# Altium integrated library example-9.IntLib: 1 symbol
Pins are listed as number, name and electrical type; pins without a type are passive.

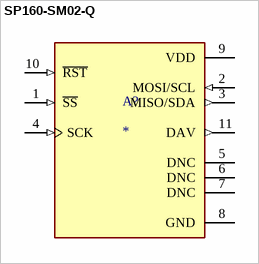
[diagram p0: symbol SP160-SM02-Q]

## SP160-SM02-Q
designator A?
Differential Pressure Sensor Optimized for Medical Â±5K Pa to Â±40K Pa - Quarter Tape & Reel; MF: Superior Sensor Technology Inc.; MP: SP160-SM02-Q; Package: None; Check_prices: https://www.snapeda.com/parts/SP160-SM02-Q/Superior+Sensor+Technology+Inc./view-part/?ref=eda; Value: *; Price: None; SnapEDA_Link: https://www.snapeda.com/parts/SP160-SM02-Q/Superior+Sensor+Technology+Inc./view-part/?ref=snap; Availability: In Stock
footprint XDCR_SP160â€SM02â€R
pins: 1 ~{SS} (in), 2 MOSI/SCL (in), 3 MISO/SDA (out), 4 SCK (in), 5 DNC, 6 DNC, 7 DNC, 8 GND (power), 9 VDD (power), 10 ~{RST} (in), 11 DAV (out)